# Altium schematic symbol library HDMI_to_RGB.SCHLIB: 23 symbols
Pins are listed as number, name and electrical type; pins without a type are passive.

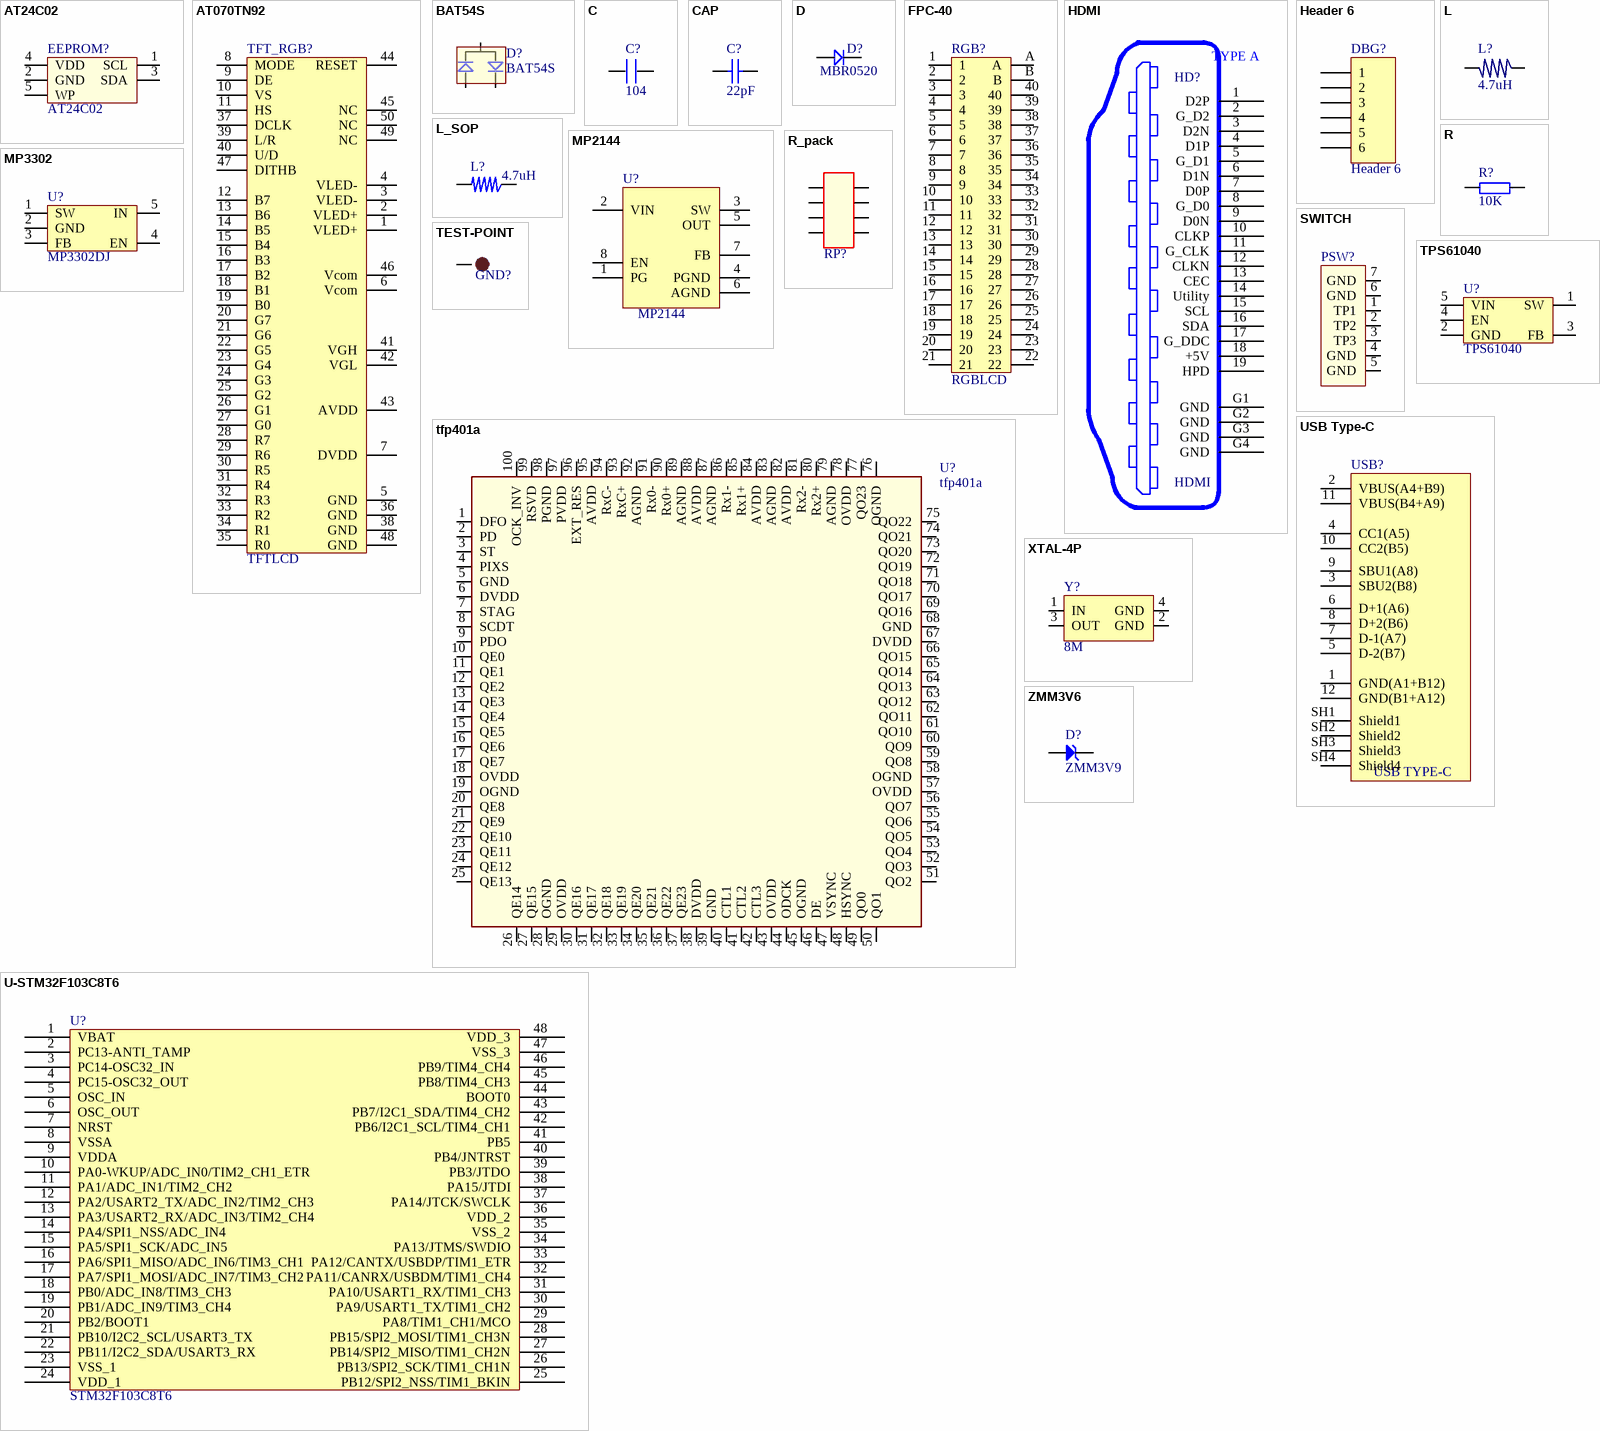
[diagram p0: symbols AT24C02 to ZMM3V6]

## AT24C02
designator EEPROM?
footprint AT24C02
pins: 1 SCL, 2 GND, 3 SDA, 4 VDD, 5 WP

## AT070TN92
designator TFT_RGB?, comment TFTLCD
7' TFTLCD
footprint FPC-TOP50 (FPCTOP;0.5mm;)
pins: 1 VLED+, 2 VLED+, 3 VLED-, 4 VLED-, 5 GND, 6 Vcom, 7 DVDD, 8 MODE, 9 DE, 10 VS, 11 HS, 12 B7, 13 B6, 14 B5, 15 B4, 16 B3, 17 B2, 18 B1, 19 B0, 20 G7, 21 G6, 22 G5, 23 G4, 24 G3, 25 G2, 26 G1, 27 G0, 28 R7, 29 R6, 30 R5, 31 R4, 32 R3, 33 R2, 34 R1, 35 R0, 36 GND, 37 DCLK, 38 GND, 39 L/R, 40 U/D, 41 VGH, 42 VGL, 43 AVDD, 44 RESET, 45 NC, 46 Vcom, 47 DITHB, 48 GND, 49 NC, 50 NC
2 alternate drawings of the same symbol

## BAT54S
designator D?
双肖特基二极管
footprint SOT23-3L
pins: 1, 2, 3

## C
designator C?, comment 104
footprint C 0603_L (无极性贴片电容)
pins: 1, 2

## CAP
designator C?, comment 22pF
footprint C 0603_L (无极性贴片电容)
pins: 1, 2

## D
designator D?, comment MBR0520
1N4148
footprint SOD-123 (2.7x1.6X1.1mm（长宽高，不包括引脚）)
pins: 1, 2

## FPC-40
designator RGB?, comment RGBLCD
FPC-40P-0.5mm
footprint FPC0.5 2H-WS-40P (长：24.2mm，宽：5.2mm，高：2mm)
pins: 1, 2, 3, 4, 5, 6, 7, 8, 9, 10, 11, 12, 13, 14, 15, 16, 17, 18, 19, 20, 21, 22, 23, 24, 25, 26, 27, 28, 29, 30, 31, 32, 33, 34, 35, 36, 37, 38, 39, 40, A, B

## HDMI
designator HD?
footprint HDMI_A
pins: 1 D2P, 2 G_D2, 3 D2N, 4 D1P, 5 G_D1, 6 D1N, 7 D0P, 8 G_D0, 9 D0N, 10 CLKP, 11 G_CLK, 12 CLKN, 13 CEC, 14 Utility, 15 SCL, 16 SDA, 17 G_DDC, 18 +5V, 19 HPD, G1 GND, G2 GND, G3 GND, G4 GND
text: TYPE A

## Header 6
designator DBG?
Header, 6-Pin; LatestRevisionDate: 17-Jul-2002; LatestRevisionNote: Re-released for DXP Platform.; Publisher: Altium Limited
signal-integrity model Connector
footprint MX 1.25-LI-6P (长：9.25mm，宽：3.2mm，高：4.2mm)
pins: 1, 2, 3, 4, 5, 6

## L
designator L?, comment 4.7uH
footprint NR4010 (4.0mm*4.0mm*1.0mm(长*宽*高）)
pins: 1, 2

## L_SOP
designator L?, comment 4.7uH
footprint NR4010 (4.0mm*4.0mm*1.0mm(长*宽*高）)
pins: 1, 2

## MP2144
designator U?
footprint SOT23-8L
pins: 1 PG, 2 VIN, 3 SW, 4 PGND, 5 OUT, 6 AGND, 7 FB, 8 EN

## MP3302
designator U?, comment MP3302DJ
LCD背光IC
footprint SOT23-5L (3x1.6x1.1mm(长宽高))
pins: 1 SW, 2 GND, 3 FB, 4 EN, 5 IN

## R
designator R?, comment 10K
footprint R 0603_L (1/10W贴片电阻)
pins: 1, 2

## R_pack
designator RP?, comment 33R  (value not drawn)
footprint P_pack
pins: 1, 2, 3, 4, 5, 6, 7, 8

## SWITCH
designator PSW?  (value not drawn)
footprint SWITCH
pins: 1 TP1, 2 TP2, 3 TP3, 4 GND, 5 GND, 6 GND, 7 GND

## TEST-POINT
designator GND?, comment TEST POINT  (value not drawn)
测试点
footprint TP-1.0 (1.0mm)
footprint TP-1.5 (1.5mm)
pins: 1

## tfp401a
designator U?
footprint LQFP100
pins: 1 DFO, 2 PD, 3 ST, 4 PIXS, 5 GND, 6 DVDD, 7 STAG, 8 SCDT, 9 PDO, 10 QE0, 11 QE1, 12 QE2, 13 QE3, 14 QE4, 15 QE5, 16 QE6, 17 QE7, 18 OVDD, 19 OGND, 20 QE8, 21 QE9, 22 QE10, 23 QE11, 24 QE12, 25 QE13, 26 QE14, 27 QE15, 28 OGND, 29 OVDD, 30 QE16, 31 QE17, 32 QE18, 33 QE19, 34 QE20, 35 QE21, 36 QE22, 37 QE23, 38 DVDD, 39 GND, 40 CTL1, 41 CTL2, 42 CTL3, 43 OVDD, 44 ODCK, 45 OGND, 46 DE, 47 VSYNC, 48 HSYNC, 49 QO0, 50 QO1, 51 QO2, 52 QO3, 53 QO4, 54 QO5, 55 QO6, 56 QO7, 57 OVDD, 58 OGND, 59 QO8, 60 QO9, 61 QO10, 62 QO11, 63 QO12, 64 QO13, 65 QO14, 66 QO15, 67 DVDD, 68 GND, 69 QO16, 70 QO17, 71 QO18, 72 QO19, 73 QO20, 74 QO21, 75 QO22, 76 OGND, 77 QO23, 78 OVDD, 79 AGND, 80 Rx2+, 81 Rx2-, 82 AVDD, 83 AGND, 84 AVDD, 85 Rx1+, 86 Rx1-, 87 AGND, 88 AVDD, 89 AGND, 90 Rx0+, 91 Rx0-, 92 AGND, 93 RxC+, 94 RxC-, 95 AVDD, 96 EXT_RES, 97 PVDD, 98 PGND, 99 RSVD, 100 OCK_INV

## TPS61040
designator U?
DC DC Step Up IC
footprint SOT23-5L (3x1.6x1.1mm(长宽高))
pins: 1 SW, 2 GND, 3 FB, 4 EN, 5 VIN

## U-STM32F103C8T6
designator U?, comment STM32F103C8T6
footprint LQFP48 7X7_L (48脚，体宽7x7mm，脚距0.5mm)
pins: 1 VBAT, 2 PC13-ANTI_TAMP, 3 PC14-OSC32_IN, 4 PC15-OSC32_OUT, 5 OSC_IN, 6 OSC_OUT, 7 NRST, 8 VSSA, 9 VDDA, 10 PA0-WKUP/ADC_IN0/TIM2_CH1_ETR, 11 PA1/ADC_IN1/TIM2_CH2, 12 PA2/USART2_TX/ADC_IN2/TIM2_CH3, 13 PA3/USART2_RX/ADC_IN3/TIM2_CH4, 14 PA4/SPI1_NSS/ADC_IN4, 15 PA5/SPI1_SCK/ADC_IN5, 16 PA6/SPI1_MISO/ADC_IN6/TIM3_CH1, 17 PA7/SPI1_MOSI/ADC_IN7/TIM3_CH2, 18 PB0/ADC_IN8/TIM3_CH3, 19 PB1/ADC_IN9/TIM3_CH4, 20 PB2/BOOT1, 21 PB10/I2C2_SCL/USART3_TX, 22 PB11/I2C2_SDA/USART3_RX, 23 VSS_1, 24 VDD_1, 25 PB12/SPI2_NSS/TIM1_BKIN, 26 PB13/SPI2_SCK/TIM1_CH1N, 27 PB14/SPI2_MISO/TIM1_CH2N, 28 PB15/SPI2_MOSI/TIM1_CH3N, 29 PA8/TIM1_CH1/MCO, 30 PA9/USART1_TX/TIM1_CH2, 31 PA10/USART1_RX/TIM1_CH3, 32 PA11/CANRX/USBDM/TIM1_CH4, 33 PA12/CANTX/USBDP/TIM1_ETR, 34 PA13/JTMS/SWDIO, 35 VSS_2, 36 VDD_2, 37 PA14/JTCK/SWCLK, 38 PA15/JTDI, 39 PB3/JTDO, 40 PB4/JNTRST, 41 PB5, 42 PB6/I2C1_SCL/TIM4_CH1, 43 PB7/I2C1_SDA/TIM4_CH2, 44 BOOT0, 45 PB8/TIM4_CH3, 46 PB9/TIM4_CH4, 47 VSS_3, 48 VDD_3

## USB Type-C
designator USB?, comment USB TypeC  (value not drawn)
12P TypeC 母座
footprint USB Type-C (USB Type-C 12P/16P)
pins: 1 GND(A1+B12), 2 VBUS(A4+B9), 3 SBU2(B8), 4 CC1(A5), 5 D-2(B7), 6 D+1(A6), 7 D-1(A7), 8 D+2(B6), 9 SBU1(A8), 10 CC2(B5), 11 VBUS(B4+A9), 12 GND(B1+A12), SH1 Shield1, SH2 Shield2, SH3 Shield3, SH4 Shield4
text: USB TYPE-C

## XTAL-4P
designator Y?, comment 8M
4脚无源晶振; BOM名称: 4脚晶振; 版权归属: 源创客; 学习资源: www.ooocke.com
footprint OSC 3225-4P
pins: 1 IN, 2 GND, 3 OUT, 4 GND

## ZMM3V6
designator D?, comment ZMM3V9
ZMM3V6
footprint MINI_MELF (LL34) (1.5*3.4mm(直径，脚距）)
pins: 1, 2